# Altium schematic symbol library C_39pF.SchLib: 1 symbol
Pins are listed as number, name and electrical type; pins without a type are passive.

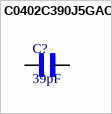
[diagram p0: symbol C0402C390J5GAC]

## C0402C390J5GAC
designator C?, comment 39pF
MP: C0402C390J5GAC; Package: None; Price: None; Value: 39pF; Availability: Unavailable
footprint CAPC1005X55N
pins: 1, 2